# Altium schematic symbol library Sch_Vishay.SchLib: 2 symbols
Pins are listed as number, name and electrical type; pins without a type are passive.

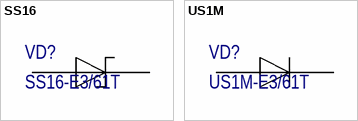
[diagram p0: symbols SS16 to US1M]

## SS16
designator VD?, comment SS16-E3/61T
Surface-Mount Schottky Barrier Rectifier; Manufacturer: Vishay; Part Number: SS16-E3/61T
footprint SMA (Molded Diode, 2-Leads, Body 4.3x2.6mm, IPC Medium Density, based on OnSemi component dimensions and land pattern)
pins: 1, 2

## US1M
designator VD?, comment US1M-E3/61T
Surface-Mount Ultrafast Rectifier; Manufacturer: Vishay; Part Number: US1M-E3/61T
footprint SMA (Molded Diode, 2-Leads, Body 4.3x2.6mm, IPC Medium Density, based on OnSemi component dimensions and land pattern)
pins: 1, 2